# EAGLE library part PIC16F887 (library microchip-pic16f887)
The library has been designed by Richard Magdycz <https://www.facebook.com/groups/eaglecadsoftUK>
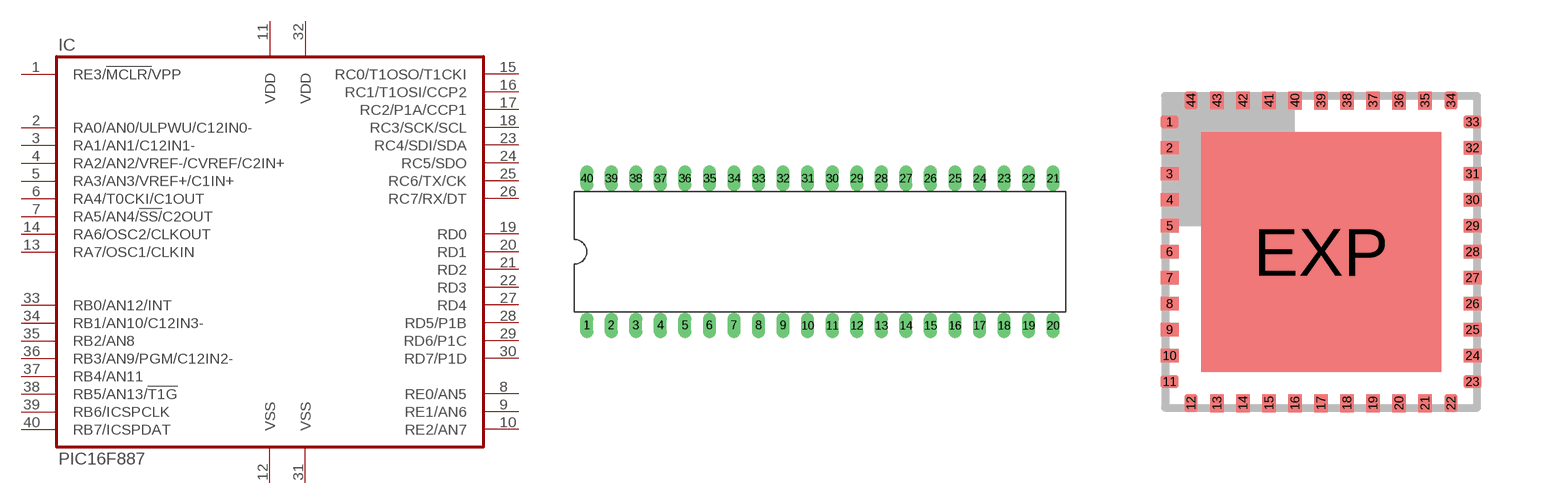
[diagram p0: symbol with the pads of DIL40; footprints DIL40, QFN44ML8X8]

Designator prefix IC

## PIC16F887-I/P  [DIL40]
1  RE3/!MCLR/!VPP  in
2  RA0/AN0/ULPWU/C12IN0-
3  RA1/AN1/C12IN1-
4  RA2/AN2/VREF-/CVREF/C2IN+
5  RA3/AN3/VREF+/C1IN+
6  RA4/T0CKI/C1OUT
7  RA5/AN4/!SS/!C2OUT
8  RE0/AN5
9  RE1/AN6
10  RE2/AN7
11  VDD  pwr
12  VSS  pwr
13  RA7/OSC1/CLKIN
14  RA6/OSC2/CLKOUT
15  RC0/T1OSO/T1CKI
16  RC1/T1OSI/CCP2
17  RC2/P1A/CCP1
18  RC3/SCK/SCL
19  RD0
20  RD1
21  RD2
22  RD3
23  RC4/SDI/SDA
24  RC5/SDO
25  RC6/TX/CK
26  RC7/RX/DT
27  RD4
28  RD5/P1B
29  RD6/P1C
30  RD7/P1D
31  VSS  pwr
32  VDD  pwr
33  RB0/AN12/INT
34  RB1/AN10/C12IN3-
35  RB2/AN8
36  RB3/AN9/PGM/C12IN2-
37  RB4/AN11
38  RB5/AN13/!T1G
39  RB6/ICSPCLK
40  RB7/ICSPDAT

## PIC16F887-I/ML  [QFN44ML8X8]
1  RC7/RX/DT
2  RD4
3  RD5/P1B
4  RD6/P1C
5  RD7/P1D
6  VSS  pwr
7  VDD  pwr
8  VDD  pwr
9  RB0/AN12/INT
10  RB1/AN10/C12IN3-
11  RB2/AN8
12  RB3/AN9/PGM/C12IN2-
14  RB4/AN11
15  RB5/AN13/!T1G
16  RB6/ICSPCLK
17  RB7/ICSPDAT
18  RE3/!MCLR/!VPP  in
19  RA0/AN0/ULPWU/C12IN0-
20  RA1/AN1/C12IN1-
21  RA2/AN2/VREF-/CVREF/C2IN+
22  RA3/AN3/VREF+/C1IN+
23  RA4/T0CKI/C1OUT
24  RA5/AN4/!SS/!C2OUT
25  RE0/AN5
26  RE1/AN6
27  RE2/AN7
28  VDD  pwr
30  VSS  pwr
31  VSS  pwr
32  RA7/OSC1/CLKIN
33  RA6/OSC2/CLKOUT
34  RC0/T1OSO/T1CKI
35  RC1/T1OSI/CCP2
36  RC2/P1A/CCP1
37  RC3/SCK/SCL
38  RD0
39  RD1
40  RD2
41  RD3
42  RC4/SDI/SDA
43  RC5/SDO
44  RC6/TX/CK

## PIC16F887-I/PT  [TQFP44]
1  RC7/RX/DT
2  RD4
3  RD5/P1B
4  RD6/P1C
5  RD7/P1D
6  VSS  pwr
7  VDD  pwr
8  RB0/AN12/INT
9  RB1/AN10/C12IN3-
10  RB2/AN8
11  RB3/AN9/PGM/C12IN2-
14  RB4/AN11
15  RB5/AN13/!T1G
16  RB6/ICSPCLK
17  RB7/ICSPDAT
18  RE3/!MCLR/!VPP  in
19  RA0/AN0/ULPWU/C12IN0-
20  RA1/AN1/C12IN1-
21  RA2/AN2/VREF-/CVREF/C2IN+
22  RA3/AN3/VREF+/C1IN+
23  RA4/T0CKI/C1OUT
24  RA5/AN4/!SS/!C2OUT
25  RE0/AN5
26  RE1/AN6
27  RE2/AN7
28  VDD  pwr
29  VSS  pwr
30  RA7/OSC1/CLKIN
31  RA6/OSC2/CLKOUT
32  RC0/T1OSO/T1CKI
35  RC1/T1OSI/CCP2
36  RC2/P1A/CCP1
37  RC3/SCK/SCL
38  RD0
39  RD1
40  RD2
41  RD3
42  RC4/SDI/SDA
43  RC5/SDO
44  RC6/TX/CK

## Footprint DIL40 (pad centres in mm)
Dual In Line package type P
drill 0.813 long: 1 -24.13,-7.62; 2 -21.59,-7.62; 3 -19.05,-7.62; 4 -16.51,-7.62; 5 -13.97,-7.62; 6 -11.43,-7.62; 7 -8.89,-7.62; 8 -6.35,-7.62; 9 -3.81,-7.62; 10 -1.27,-7.62; 11 1.27,-7.62; 12 3.81,-7.62; 13 6.35,-7.62; 14 8.89,-7.62; 15 11.43,-7.62; 16 13.97,-7.62; 17 16.51,-7.62; 18 19.05,-7.62; 19 21.59,-7.62; 20 24.13,-7.62; 21 24.13,7.62; 22 21.59,7.62; 23 19.05,7.62; 24 16.51,7.62; 25 13.97,7.62; 26 11.43,7.62; 27 8.89,7.62; 28 6.35,7.62; 29 3.81,7.62; 30 1.27,7.62; 31 -1.27,7.62; 32 -3.81,7.62; 33 -6.35,7.62; 34 -8.89,7.62; 35 -11.43,7.62; 36 -13.97,7.62; 37 -16.51,7.62; 38 -19.05,7.62; 39 -21.59,7.62; 40 -24.13,7.62

## Footprint QFN44ML8X8 (pad centres in mm)
44-Lead Plastic Quad Flat No Lead Package (ML) 8x8 mm Body (QFN) Source: http://ww1.microchip.com/downloads/en/devicedoc/39632c.pdf
smd 0.45 x 0.33: 1 -3.788,3.25; 2 -3.788,2.6; 3 -3.788,1.95; 4 -3.788,1.3; 5 -3.788,0.65; 6 -3.788,0; 7 -3.788,-0.65; 8 -3.788,-1.3; 9 -3.788,-1.95; 10 -3.788,-2.6; 11 -3.788,-3.25; 23 3.788,-3.25; 24 3.788,-2.6; 25 3.788,-1.95; 26 3.788,-1.3; 27 3.788,-0.65; 28 3.788,0; 29 3.788,0.65; 30 3.788,1.3; 31 3.788,1.95; 32 3.788,2.6; 33 3.788,3.25
smd 0.33 x 0.45: 12 -3.25,-3.788; 13 -2.6,-3.788; 14 -1.95,-3.788; 15 -1.3,-3.788; 16 -0.65,-3.788; 17 0,-3.788; 18 0.65,-3.788; 19 1.3,-3.788; 20 1.95,-3.788; 21 2.6,-3.788; 22 3.25,-3.788; 34 3.25,3.788; 35 2.6,3.788; 36 1.95,3.788; 37 1.3,3.788; 38 0.65,3.788; 39 0,3.788; 40 -0.65,3.788; 41 -1.3,3.788; 42 -1.95,3.788; 43 -2.6,3.788; 44 -3.25,3.788
smd 6 x 6: EXP 0,0

## Footprint TQFP44 (pad centres in mm)
Thin Quad Flat Pack package type TQ
smd 1.5 x 0.5: 1 -5.8,4; 2 -5.8,3.2; 3 -5.8,2.4; 4 -5.8,1.6; 5 -5.8,0.8; 6 -5.8,0; 7 -5.8,-0.8; 8 -5.8,-1.6; 9 -5.8,-2.4; 10 -5.8,-3.2; 11 -5.8,-4; 23 5.8,-4; 24 5.8,-3.2; 25 5.8,-2.4; 26 5.8,-1.6; 27 5.8,-0.8; 28 5.8,0; 29 5.8,0.8; 30 5.8,1.6; 31 5.8,2.4; 32 5.8,3.2; 33 5.8,4
smd 0.5 x 1.5: 12 -4,-5.8; 13 -3.2,-5.8; 14 -2.4,-5.8; 15 -1.6,-5.8; 16 -0.8,-5.8; 17 0,-5.8; 18 0.8,-5.8; 19 1.6,-5.8; 20 2.4,-5.8; 21 3.2,-5.8; 22 4,-5.8; 34 4,5.8; 35 3.2,5.8; 36 2.4,5.8; 37 1.6,5.8; 38 0.8,5.8; 39 0,5.8; 40 -0.8,5.8; 41 -1.6,5.8; 42 -2.4,5.8; 43 -3.2,5.8; 44 -4,5.8